# EAGLE library part M41T62 (library st-microelectronics)
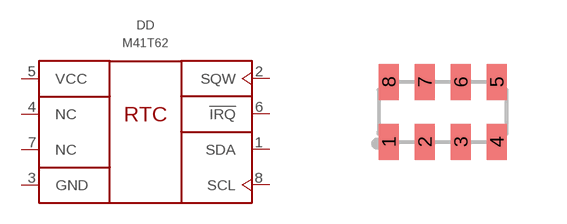
[diagram p10: symbol with the pads of LCC8; footprint LCC8]

Designator prefix DD

## M41T62LC6F  [LCC8]
1  SDA
2  SQW  out
3  GND  pwr
4  NC  nc
5  VCC  pwr
6  !IRQ  out
7  NC  nc
8  SCL

## Footprint LCC8 (pad centres in mm)
smd 0.5 x 0.9: 1 -1.35,-0.75; 2 -0.45,-0.75; 3 0.45,-0.75; 4 1.35,-0.75; 5 1.35,0.75; 6 0.45,0.75; 7 -0.45,0.75; 8 -1.35,0.75